# Altium schematic symbol library TO-220AB.SCHLIB: 1 symbol
Pins are listed as number, name and electrical type; pins without a type are passive.

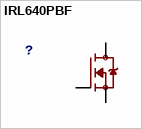
[diagram p0: symbol IRL640PBF]

## IRL640PBF
designator ?
footprint TO-220AB
pins: P$1 G, P$2 D, P$3 S